# Altium footprint library mi_2_0805.PcbLib: 1 footprints
Each footprint in its own frame and in the unit in brackets; x right, y up, seen from the top. Pads: shape width x height; smd on the part's side, far side on the other; paste and mask are expansions set on the pad; w line width, h text height; cw(c..) or ccw(c..) is an arc to the next point about the centre after c.
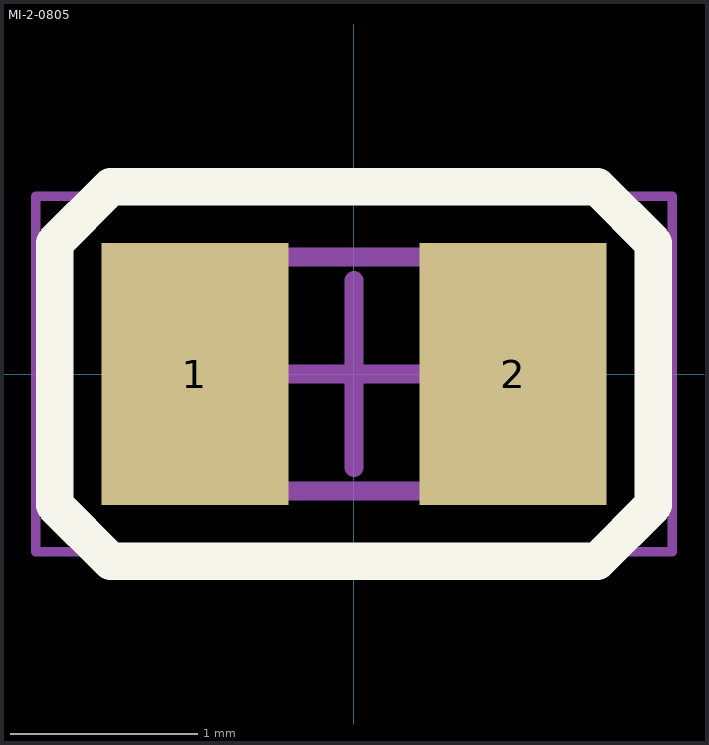
[diagram p0: the footprint, top view; thin cyan lines are the x and y axes]

## MI-2-0805 [mm] "Chip Inductor, 2-Leads, Body 2,00x1,25mm, IPC Medium Density"
height 0.9
pads (2):
  rect 1x1.4 smd: 1(-0.85,0) 2(0.85,0)
Top Overlay:
  lines w0.2: -1.6,-0.7 -1.3,-1 1.3,-1 1.6,-0.7 1.6,0.7 1.3,1 -1.3,1 -1.6,0.7 -1.6,-0.7
Top Comment:
  text ".Comment" at 1.143,1.143 h1.2
Top Designator:
  text ".Designator" at -0.381,1.143 h1.2
Top Component Outline:
  lines w0.1: -1,-0.625 -1,0.625 1,0.625 1,-0.625 -1,-0.625
Top Courtyard (Mech15):
  lines w0.05: -1.7,-0.95 -1.7,0.95 1.7,0.95 1.7,-0.95 -1.7,-0.95
  lines w0.1: -0.5,0 0.5,0 ; 0,-0.5 0,0.5
3D body "MI0805K400R-10.step": height 0.9, standoff 0, extent -1,-0.625 1,0.625